# EAGLE library part OPTOCOUPLER-HCPL-X73 (library FlashPCB_ICs)
HCPL-073L - Low Input Current, High Gain, LVTTL/LVCMOS Compatible Optocouplers Technical Specifications: Input voltage: 3.3/5v dual supply Min input current: 0.5mA Output current: 60mA Component Search: HCPL-073L-000E <https://www.flashpcb.com/components> Datasheet: HCPL-270L/070L/273L/073L Low Input Current, High Gain, LVTTL/LVCMOS Compatible Optocouplers <https://docs.broadcom.com/doc/AV02-1054EN>
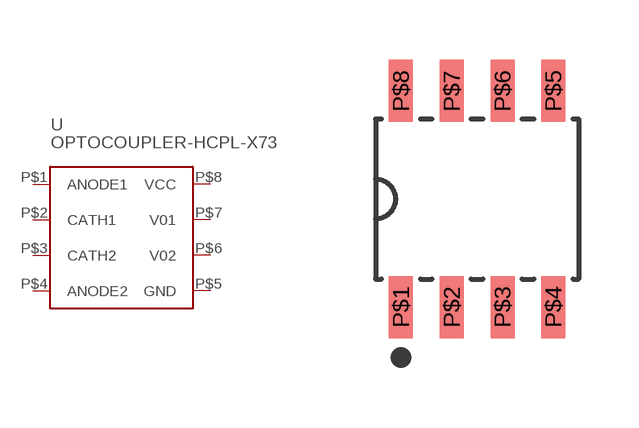
[diagram p69: symbol with the pads of SOIC-8-150MIL-3.9MM; footprint SOIC-8-150MIL-3.9MM]

Designator prefix U

## OPTOCOUPLER-HCPL-X73  [SOIC-8-150MIL-3.9MM]
P$1  ANODE1
P$2  CATH1
P$3  CATH2
P$4  ANODE2
P$5  GND
P$6  V02
P$7  V01
P$8  VCC

## Footprint SOIC-8-150MIL-3.9MM (pad centres in mm)
smd 0.6 x 1.55: P$1 -1.905,-2.7; P$2 -0.635,-2.7; P$3 0.635,-2.7; P$4 1.905,-2.7; P$5 1.905,2.7; P$6 0.635,2.7; P$7 -0.635,2.7; P$8 -1.905,2.7